# Altium footprint library NB.PcbLib: 18 footprints (part 2 of 2)
Each footprint in its own frame and in the unit in brackets; x right, y up, seen from the top. Pads: shape width x height; smd on the part's side, far side on the other; paste and mask are expansions set on the pad; w line width, h text height; cw(c..) or ccw(c..) is an arc to the next point about the centre after c.
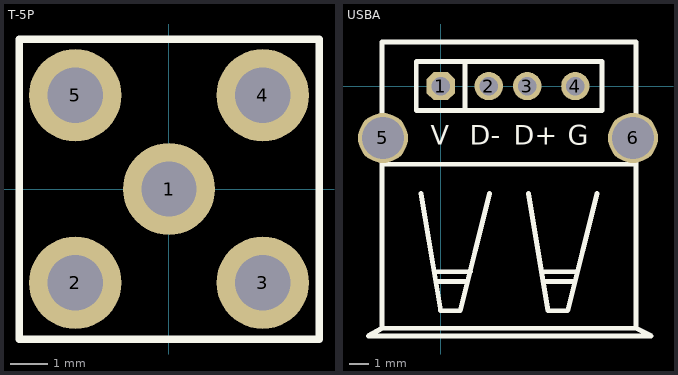
[diagram p1: the footprints below, top view; thin cyan lines are the x and y axes]

## T-5P [mm]
pads (5):
  round 2.5 hole 1.5: 1(0.005,0.005) 2(-2.535,-2.535) 3(2.545,-2.535) 4(2.545,2.545) 5(-2.535,2.545)
Top Overlay:
  lines w0.203: -4.059,-4.059 -4.059,4.069 4.069,4.069 4.069,-4.059 -4.059,-4.059

## USBA [mm]
pads (6):
  oct 1.473x1.473 hole 0.965: 1(0,0)
  round 1.473 hole 0.965: 2(2.5,0) 3(4.5,0) 4(7,0)
  round 2.6 hole 2.2: 5(-3,-2.7) 6(10,-2.7)
Top Overlay:
  lines w0.254: -3.048,-4.064 10.16,-4.064 ; -1.016,-5.588 0,-11.684 1.016,-11.684 2.54,-5.588 ; -0.33,-9.652 1.549,-9.652 ; -0.203,-10.16 1.321,-10.16 ; 1.27,-1.27 1.27,1.27 ; 4.572,-5.588 5.588,-11.684 6.604,-11.684 8.128,-5.588 ; 5.232,-9.652 7.112,-9.652 ; 5.359,-10.16 6.883,-10.16 ; -3.048,-12.59 -3.048,2.286 10.16,2.286 10.16,-12.59 ; -3.048,-12.59 10.16,-12.59 ; -3.048,-12.59 -3.752,-12.99 10.948,-12.99 10.16,-12.59 ; -1.27,-1.27 8.382,-1.27 8.382,1.27 -1.27,1.27 -1.27,-1.27
  text "D-" at 1.524,-3.048 h1.02
  text "D+" at 3.81,-3.048 h1.02
  text "V" at -0.508,-3.048 h1.02
  text "G" at 6.604,-3.048 h1.02